# Altium schematic symbol library TS09-63-25-R-260-SMT-TR.SchLib: 1 symbol
Pins are listed as number, name and electrical type; pins without a type are passive.

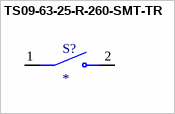
[diagram p0: symbol TS09-63-25-R-260-SMT-TR]

## TS09-63-25-R-260-SMT-TR
designator S?
6.1 x 3.7 mm, 2.5 mm Actuator Height, 260 gf, Red, Surface Mount, SPST, Tactile Switch; MF: Same Sky; MP: TS09-63-25-R-260-SMT-TR; SnapEDA_Link: https://www.snapeda.com/parts/TS09-63-25-R-260-SMT-TR/Same+Sky/view-part/?ref=snap; Package: None; Value: *; Check_prices: https://www.snapeda.com/parts/TS09-63-25-R-260-SMT-TR/Same+Sky/view-part/?ref=eda
footprint SW_TS09-63-25-R-260-SMT-TR
pins: 1, 2